# Altium footprint library PCB - RF MODULE - U-BLOX NEO-F10T-00B.PcbLib: 1 footprints
Each footprint in its own frame and in the unit in brackets; x right, y up, seen from the top. Pads: shape width x height; smd on the part's side, far side on the other; paste and mask are expansions set on the pad; w line width, h text height; cw(c..) or ccw(c..) is an arc to the next point about the centre after c.
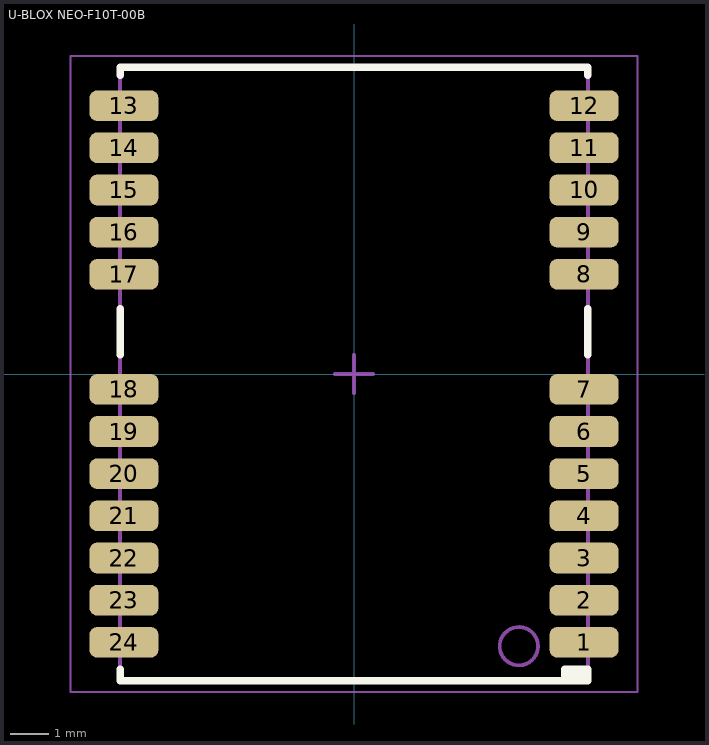
[diagram p0: the footprint, top view; thin cyan lines are the x and y axes]

## U-BLOX NEO-F10T-00B [mm] "u-blox F10 high accuracy timing module"
height 2.6
pads (24):
  rrect50% 1.8x0.8 smd paste-2539.97: 1(6,-7) 2(6,-5.9) 3(6,-4.8) 4(6,-3.7) 5(6,-2.6) 6(6,-1.5) 7(6,-0.4) 8(6,2.6) 9(6,3.7) 10(6,4.8) 11(6,5.9) 12(6,7) 13(-6,7) 14(-6,5.9) 15(-6,4.8) 16(-6,3.7) 17(-6,2.6) 18(-6,-0.4) 19(-6,-1.5) 20(-6,-2.6) 21(-6,-3.7) 22(-6,-4.8) 23(-6,-5.9) 24(-6,-7)
Top Overlay:
  rectangle: 5.5,-8 6.1,-7.7
  lines w0.2: -6.1,-7.7 -6.1,-8 6.1,-8 6.1,-7.7 5.5,-7.7 5.5,-8 ; -6.1,0.5 -6.1,1.7 ; -6.1,7.8 -6.1,8 6.1,8 6.1,7.8 ; 6.1,0.5 6.1,1.7
Top Paste:
  drawing of 24 lines, arcs and shapes, not listed
Top Assembly:
  circle w0.1: c4.3,-7.1 r0.5
  lines w0.1: -6.1,-8 -6.1,8 6.1,8 6.1,-8 -6.1,-8
Top Courtyard:
  lines w0.05: -7.4,-8.3 -7.4,8.3 7.4,8.3 7.4,-8.3 -7.4,-8.3
  lines w0.1: -0.5,0 0.5,0 ; 0,-0.5 0,0.5
3D body "uBlox NEO-F10T.step": height 2.41, standoff 0, extent -6.1,-8 6.1,8